# EAGLE library part 61302211121 (library Wuerth_Elektronik_eiCan_Pin_&_Socked_Headers_v1.3)
WR- PHD 2.54mm Pin Header, 22 Pins
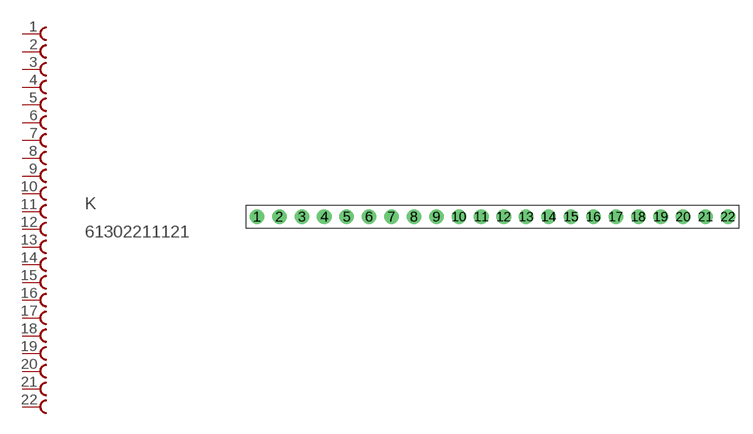
[diagram p12: symbol with the pads of 61302211121; footprint 61302211121]

Designator prefix K

## 61302211121  [61302211121]
1  1  pas
2  2  pas
3  3  pas
4  4  pas
5  5  pas
6  6  pas
7  7  pas
8  8  pas
9  9  pas
10  10  pas
11  11  pas
12  12  pas
13  13  pas
14  14  pas
15  15  pas
16  16  pas
17  17  pas
18  18  pas
19  19  pas
20  20  pas
21  21  pas
22  22  pas

## Footprint 61302211121 (pad centres in mm)
WR-PHD 2.54mm Pin Header, 22 Pins
drill 1.1 round: 1 -26.67,0; 2 -24.13,0; 3 -21.59,0; 4 -19.05,0; 5 -16.51,0; 6 -13.97,0; 7 -11.43,0; 8 -8.89,0; 9 -6.35,0; 10 -3.81,0; 11 -1.27,0; 12 1.27,0; 13 3.81,0; 14 6.35,0; 15 8.89,0; 16 11.43,0; 17 13.97,0; 18 16.51,0; 19 19.05,0; 20 21.59,0; 21 24.13,0; 22 26.67,0